# EAGLE library part MT47H128M16 (library dan-dram)
Micron MT47H128M16 2Gb x16 DDR2 DRAM
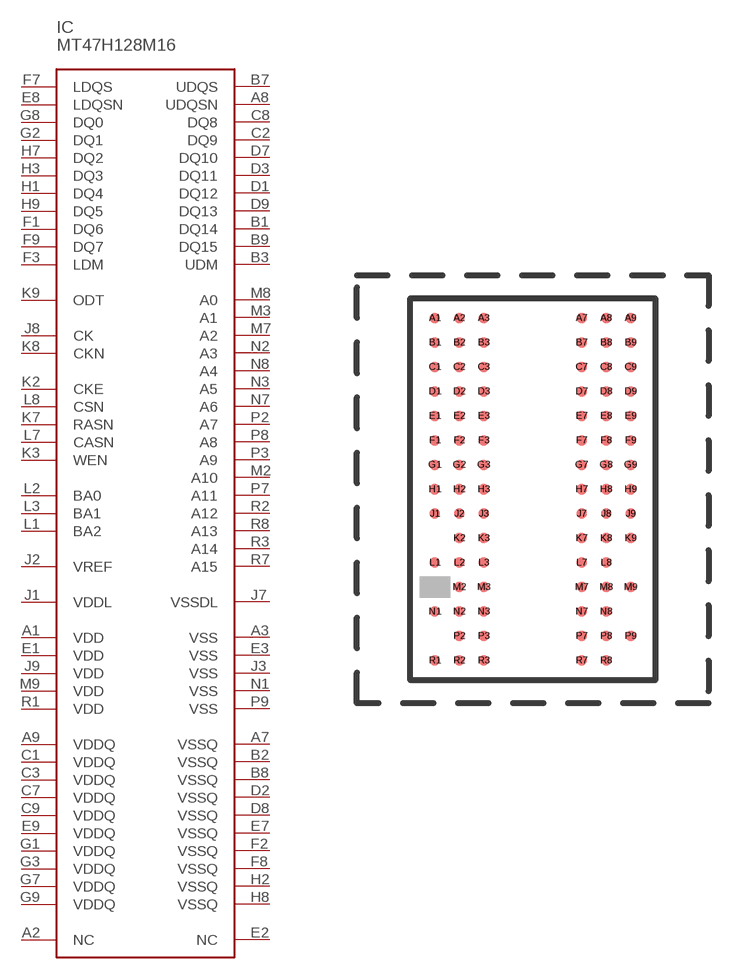
[diagram p2: symbol with the pads of FBGA84; footprint FBGA84]

Designator prefix IC

## MT47H128M16  [FBGA84]
A1  VDD  pas
A2  NC  nc
A3  VSS  pas
A7  VSSQ  pas
A8  UDQSN
A9  VDDQ  pas
B1  DQ14
B2  VSSQ  pas
B3  UDM  in
B7  UDQS
B8  VSSQ  pas
B9  DQ15
C1  VDDQ  pas
C2  DQ9
C3  VDDQ  pas
C7  VDDQ  pas
C8  DQ8
C9  VDDQ  pas
D1  DQ12
D2  VSSQ  pas
D3  DQ11
D7  DQ10
D8  VSSQ  pas
D9  DQ13
E1  VDD  pas
E2  NC  nc
E3  VSS  pas
E7  VSSQ  pas
E8  LDQSN
E9  VDDQ  pas
F1  DQ6
F2  VSSQ  pas
F3  LDM  in
F7  LDQS
F8  VSSQ  pas
F9  DQ7
G1  VDDQ  pas
G2  DQ1
G3  VDDQ  pas
G7  VDDQ  pas
G8  DQ0
G9  VDDQ  pas
H1  DQ4
H2  VSSQ  pas
H3  DQ3
H7  DQ2
H8  VSSQ  pas
H9  DQ5
J1  VDDL  pas
J2  VREF  pas
J3  VSS  pas
J7  VSSDL  pas
J8  CK  in
J9  VDD  pas
K2  CKE  in
K3  WEN  in
K7  RASN  in
K8  CKN  in
K9  ODT  in
L1  BA2  in
L2  BA0  in
L3  BA1  in
L7  CASN  in
L8  CSN  in
M2  A10  in
M3  A1  in
M7  A2  in
M8  A0  in
M9  VDD  pas
N1  VSS  pas
N2  A3  in
N3  A5  in
N7  A6  in
N8  A4  in
P2  A7  in
P3  A9  in
P7  A11  in
P8  A8  in
P9  VSS  pas
R1  VDD  pas
R2  A12  in
R3  A14  in
R7  A15  in
R8  A13  in

## Footprint FBGA84 (pad centres in mm)
84-ball FBGA (8mmx12.5mm) For DDR2 x16 part; from Micron MT47H64M16 datasheet
smd 0.343 x 0.343: A1 -3.2,5.6; A2 -2.4,5.6; A3 -1.6,5.6; A7 1.6,5.6; A8 2.4,5.6; A9 3.2,5.6; B1 -3.2,4.8; B2 -2.4,4.8; B3 -1.6,4.8; B7 1.6,4.8; B8 2.4,4.8; B9 3.2,4.8; C1 -3.2,4; C2 -2.4,4; C3 -1.6,4; C7 1.6,4; C8 2.4,4; C9 3.2,4; D1 -3.2,3.2; D2 -2.4,3.2; D3 -1.6,3.2; D7 1.6,3.2; D8 2.4,3.2; D9 3.2,3.2; E1 -3.2,2.4; E2 -2.4,2.4; E3 -1.6,2.4; E7 1.6,2.4; E8 2.4,2.4; E9 3.2,2.4; F1 -3.2,1.6; F2 -2.4,1.6; F3 -1.6,1.6; F7 1.6,1.6; F8 2.4,1.6; F9 3.2,1.6; G1 -3.2,0.8; G2 -2.4,0.8; G3 -1.6,0.8; G7 1.6,0.8; G8 2.4,0.8; G9 3.2,0.8; H1 -3.2,0; H2 -2.4,0; H3 -1.6,0; H7 1.6,0; H8 2.4,0; H9 3.2,0; J1 -3.2,-0.8; J2 -2.4,-0.8; J3 -1.6,-0.8; J7 1.6,-0.8; J8 2.4,-0.8; J9 3.2,-0.8; K2 -2.4,-1.6; K3 -1.6,-1.6; K7 1.6,-1.6; K8 2.4,-1.6; K9 3.2,-1.6; L1 -3.2,-2.4; L2 -2.4,-2.4; L3 -1.6,-2.4; L7 1.6,-2.4; L8 2.4,-2.4; M2 -2.4,-3.2; M3 -1.6,-3.2; M7 1.6,-3.2; M8 2.4,-3.2; M9 3.2,-3.2; N1 -3.2,-4; N2 -2.4,-4; N3 -1.6,-4; N7 1.6,-4; N8 2.4,-4; P2 -2.4,-4.8; P3 -1.6,-4.8; P7 1.6,-4.8; P8 2.4,-4.8; P9 3.2,-4.8; R1 -3.2,-5.6; R2 -2.4,-5.6; R3 -1.6,-5.6; R7 1.6,-5.6; R8 2.4,-5.6